# Altium schematic symbol library Fuse 1.Schlib: 1 symbol
Pins are listed as number, name and electrical type; pins without a type are passive.

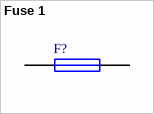
[diagram p0: symbol Fuse 1]

## Fuse 1
designator F?
Fuse
pins: 1, 2